# Altium integrated library TI_Logic_Gate.IntLib: 2017 symbols (part 22 of 56)
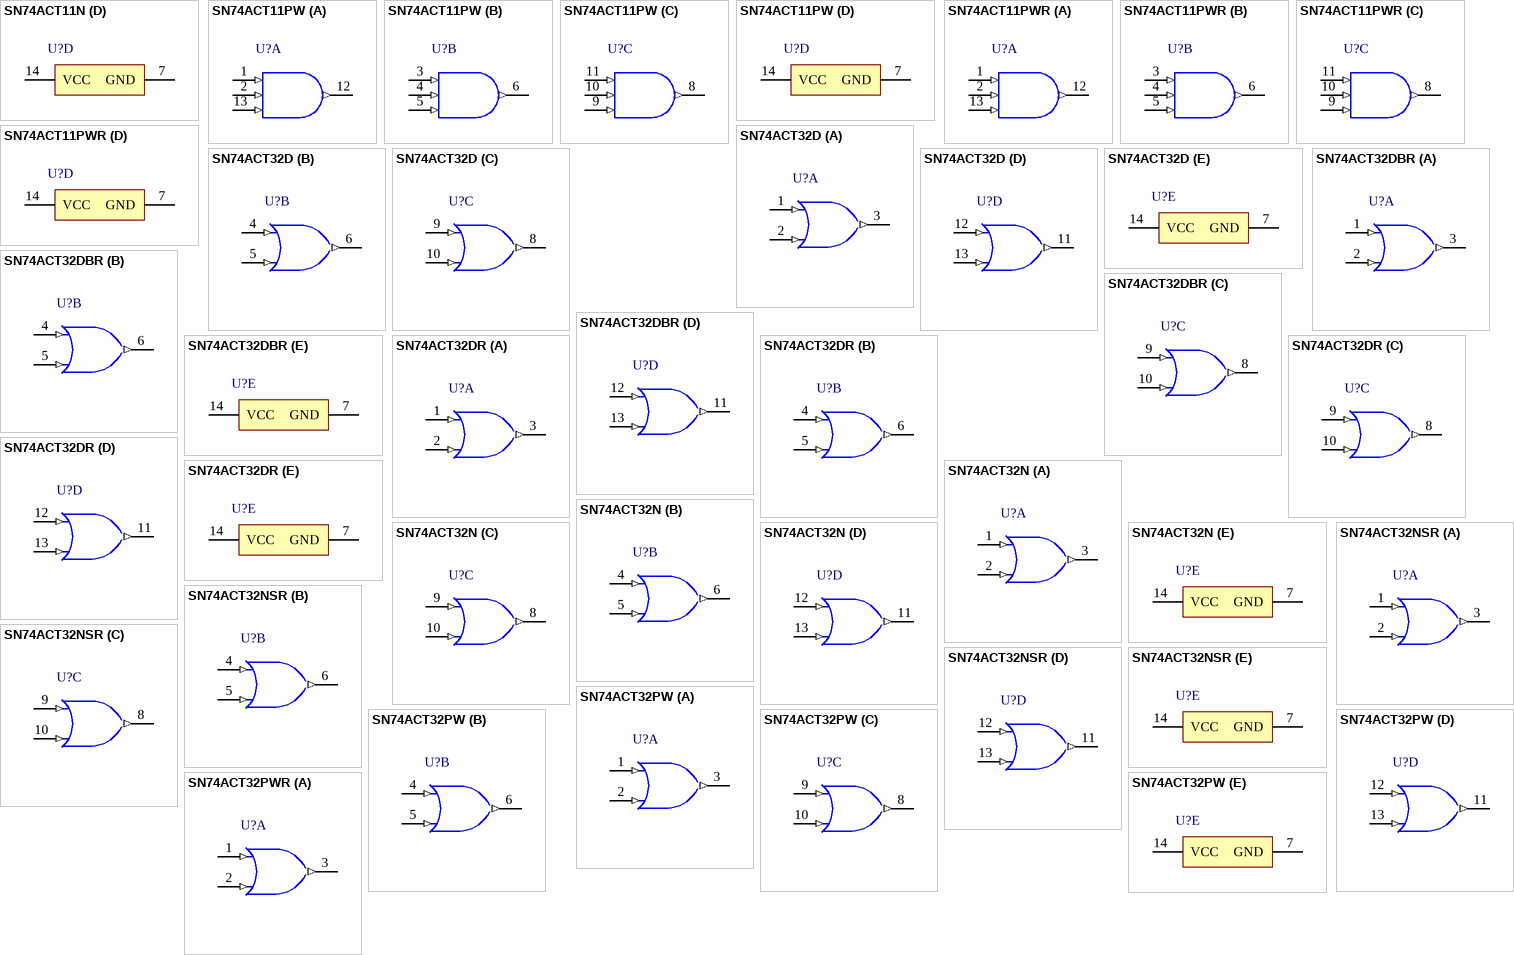
[diagram p246: symbols SN74ACT11N to SN74ACT32PWR]

## SN74ACT32NSR
designator U?
Quadruple 2-Input Positive-OR Gates, NS0014A, LARGE T&R; Generic Part Number: SN74ACT32; Manufacturer: Texas Instruments; PartNumber: SN74ACT32NSR; VCC(Min)(V): 4.5; VCC(Max)(V): 5.5; Output Type: CMOS; ICC @ Nom Voltage(Max)(mA): 0.02; Input Type: TTL; Bits(#): 4; F @ Nom Voltage(Max)(Mhz): 90; Rating: Catalog; Voltage(Nom)(V): 5; Output Drive (IOL/IOH)(Max)(mA): 24/-24; tpd @ Nom Voltage(Max)(ns): 10; DatasheetVersion: SCAS530C; PackageReference: NS0014A; Operating Temperature Range(C): -40 to 85; ComponentLink1Description: Manufacturer URL; ComponentLink1URL: http://www.ti.com/; ComponentLink2Description: Datasheet; ComponentLink2URL: http://www.ti.com/lit/ds/symlink/sn74act32.pdf; ComponentLink3Description: Package Specification; ComponentLink3URL: http://www.ti.com/lit/ml/msop002a/msop002a.pdf
footprint NS0014A_N (SOIC,14-Leads,Body 10.5x5.6mm,Pitch 1.27mm,IPC Medium Density)
footprint NS0014A_M (SOIC,14-Leads,Body 10.5x5.6mm,Pitch 1.27mm,IPC Low Density)
footprint NS0014A_L (SOIC,14-Leads,Body 10.5x5.6mm,Pitch 0.4mm,IPC High Density)
part A pins: 1 1A (in), 2 1B (in), 3 1Y (out)
part B pins: 4 2A (in), 5 2B (in), 6 2Y (out)
part C pins: 8 3Y (out), 9 3A (in), 10 3B (in)
part D pins: 11 4Y (out), 12 4A (in), 13 4B (in)
part E pins: 7 GND (power), 14 VCC (power)

## SN74ACT32PW
designator U?
Quadruple 2-Input Positive-OR Gates, PW0014A, TUBE; Generic Part Number: SN74ACT32; Manufacturer: Texas Instruments; PartNumber: SN74ACT32PW; VCC(Min)(V): 4.5; VCC(Max)(V): 5.5; Output Type: CMOS; ICC @ Nom Voltage(Max)(mA): 0.02; Input Type: TTL; Bits(#): 4; F @ Nom Voltage(Max)(Mhz): 90; Rating: Catalog; Voltage(Nom)(V): 5; Output Drive (IOL/IOH)(Max)(mA): 24/-24; tpd @ Nom Voltage(Max)(ns): 10; DatasheetVersion: SCAS530C; PackageReference: PW0014A; Operating Temperature Range(C): -40 to 85; Code_JEDEC: MO-153; ComponentLink1Description: Manufacturer URL; ComponentLink1URL: http://www.ti.com/; ComponentLink2Description: Datasheet; ComponentLink2URL: http://www.ti.com/lit/ds/symlink/sn74act32.pdf; ComponentLink3Description: Package Specification; ComponentLink3URL: http://www.ti.com/lit/ml/mpds360/mpds360.pdf
footprint PW0014A_N (SOP, 14-Leads, Body 5.1x4.5mm, Pitch 0.65mm, IPC Medium Density)
footprint PW0014A_M (SOP, 14-Leads, Body 5.1x4.5mm, Pitch 0.65mm, IPC Low Density)
footprint PW0014A_L (SOP, 14-Leads, Body 5.1x4.5mm, Pitch 0.65mm, IPC High Density)
part A pins: 1 1A (in), 2 1B (in), 3 1Y (out)
part B pins: 4 2A (in), 5 2B (in), 6 2Y (out)
part C pins: 8 3Y (out), 9 3A (in), 10 3B (in)
part D pins: 11 4Y (out), 12 4A (in), 13 4B (in)
part E pins: 7 GND (power), 14 VCC (power)

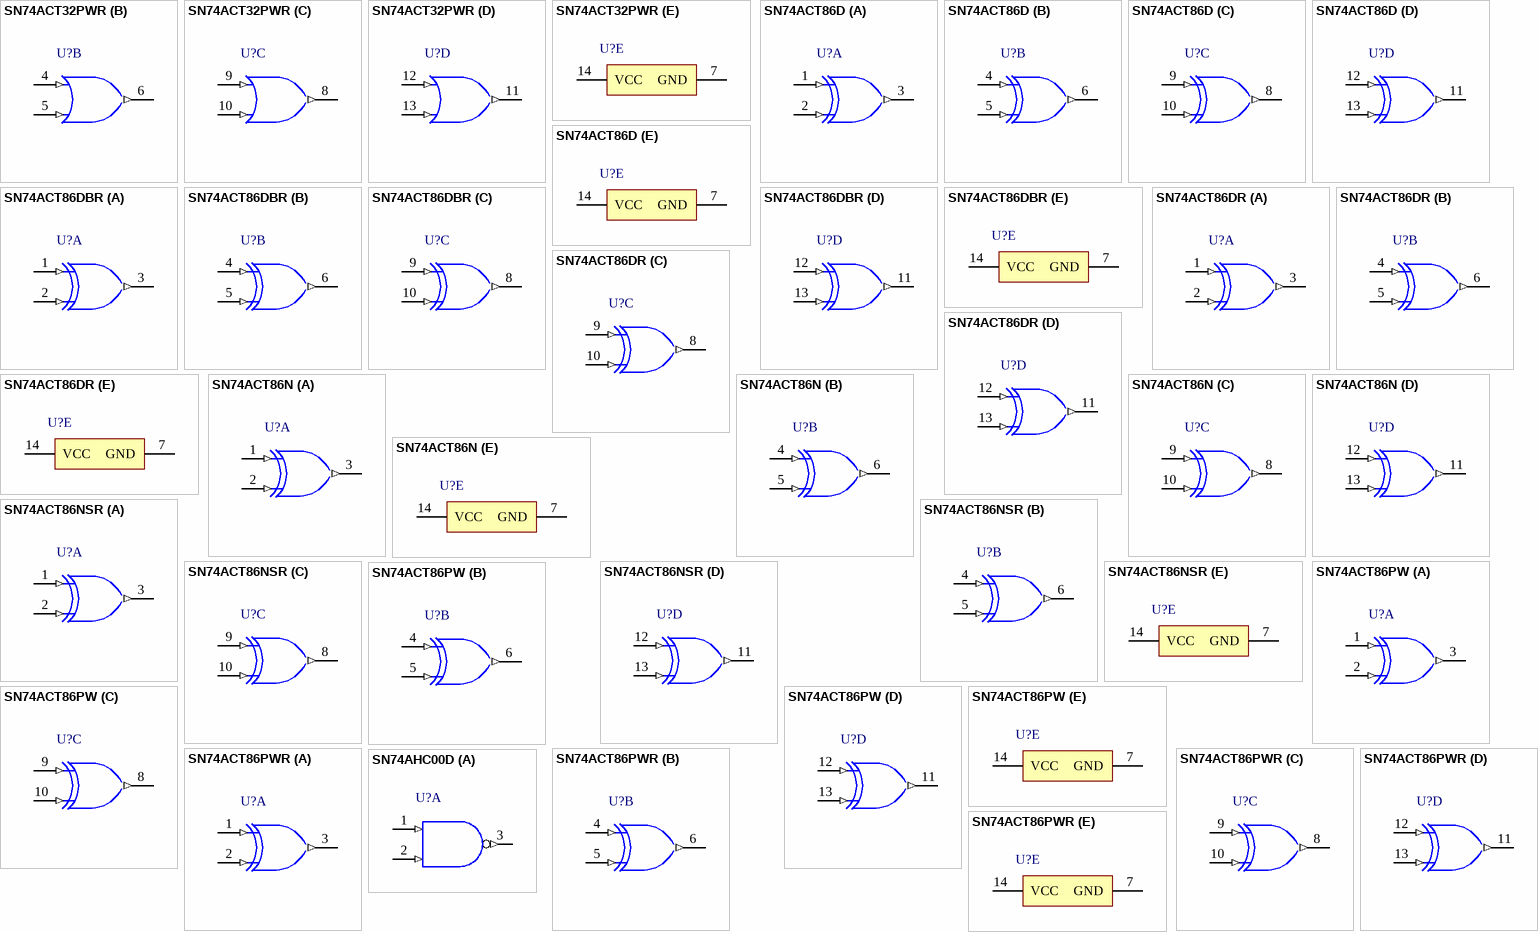
[diagram p87: symbols SN74ACT32PWR to SN74AHC00D]

## SN74ACT32PWR
designator U?
Quadruple 2-Input Positive-OR Gates, PW0014A, LARGE T&R; Generic Part Number: SN74ACT32; Manufacturer: Texas Instruments; PartNumber: SN74ACT32PWR; VCC(Min)(V): 4.5; VCC(Max)(V): 5.5; Output Type: CMOS; ICC @ Nom Voltage(Max)(mA): 0.02; Input Type: TTL; Bits(#): 4; F @ Nom Voltage(Max)(Mhz): 90; Rating: Catalog; Voltage(Nom)(V): 5; Output Drive (IOL/IOH)(Max)(mA): 24/-24; tpd @ Nom Voltage(Max)(ns): 10; DatasheetVersion: SCAS530C; PackageReference: PW0014A; Operating Temperature Range(C): -40 to 85; Code_JEDEC: MO-153; ComponentLink1Description: Manufacturer URL; ComponentLink1URL: http://www.ti.com/; ComponentLink2Description: Datasheet; ComponentLink2URL: http://www.ti.com/lit/ds/symlink/sn74act32.pdf; ComponentLink3Description: Package Specification; ComponentLink3URL: http://www.ti.com/lit/ml/mpds360/mpds360.pdf
footprint PW0014A_N (SOP, 14-Leads, Body 5.1x4.5mm, Pitch 0.65mm, IPC Medium Density)
footprint PW0014A_M (SOP, 14-Leads, Body 5.1x4.5mm, Pitch 0.65mm, IPC Low Density)
footprint PW0014A_L (SOP, 14-Leads, Body 5.1x4.5mm, Pitch 0.65mm, IPC High Density)
part A pins: 1 1A (in), 2 1B (in), 3 1Y (out)
part B pins: 4 2A (in), 5 2B (in), 6 2Y (out)
part C pins: 8 3Y (out), 9 3A (in), 10 3B (in)
part D pins: 11 4Y (out), 12 4A (in), 13 4B (in)
part E pins: 7 GND (power), 14 VCC (power)

## SN74ACT86D
designator U?
Quadruple 2-Input Exclusive-OR Gates, D0014A, TUBE; Generic Part Number: SN74ACT86; Manufacturer: Texas Instruments; PartNumber: SN74ACT86D; VCC(Min)(V): 4.5; VCC(Max)(V): 5.5; Output Type: CMOS; ICC @ Nom Voltage(Max)(mA): 0.04; Input Type: TTL; Bits(#): 4; F @ Nom Voltage(Max)(Mhz): 90; Rating: Catalog; Technology Family: ACT; Voltage(Nom)(V): 5; Schmitt Trigger: No; Output Drive (IOL/IOH)(Max)(mA): 24/-24; tpd @ Nom Voltage(Max)(ns): 10; DatasheetVersion: SCAS534C; PackageReference: D0014A; Supplier 1: Mouser; Supplier Part Number 1: 595-SN74ACT86D; Supplier 2: Digi-Key; Supplier Part Number 2: 296-1463-5-ND; Operating Temperature Range(C): -40 to 85; ComponentLink1Description: Manufacturer URL; ComponentLink1URL: http://www.ti.com/; ComponentLink2Description: Datasheet; ComponentLink2URL: http://www.ti.com/lit/ds/symlink/sn74act86.pdf
footprint D0014A_N (SOIC, 14-Leads, Body 8.75x4mm, Pitch 1.27mm, IPC Medium Density)
footprint D0014A_M (SOIC, 14-Leads, Body 8.75x4mm, Pitch 1.27mm, IPC Low Density)
footprint D0014A_L (SOIC, 14-Leads, Body 8.75x4mm, Pitch 1.27mm, IPC High Density)
part A pins: 1 1A (in), 2 1B (in), 3 1Y (out)
part B pins: 4 2A (in), 5 2B (in), 6 2Y (out)
part C pins: 8 3Y (out), 9 3A (in), 10 3B (in)
part D pins: 11 4Y (out), 12 4A (in), 13 4B (in)
part E pins: 7 GND (power), 14 VCC (power)

## SN74ACT86DBR
designator U?
Quadruple 2-Input Exclusive-OR Gates, DB0014A, LARGE T&R; Generic Part Number: SN74ACT86; Manufacturer: Texas Instruments; PartNumber: SN74ACT86DBR; VCC(Min)(V): 4.5; VCC(Max)(V): 5.5; Output Type: CMOS; ICC @ Nom Voltage(Max)(mA): 0.04; Input Type: TTL; Bits(#): 4; F @ Nom Voltage(Max)(Mhz): 90; Rating: Catalog; Technology Family: ACT; Voltage(Nom)(V): 5; Schmitt Trigger: No; Output Drive (IOL/IOH)(Max)(mA): 24/-24; tpd @ Nom Voltage(Max)(ns): 10; DatasheetVersion: SCAS534C; PackageReference: DB0014A; Supplier 1: Mouser; Supplier Part Number 1: 595-SN74ACT86DBR; Supplier 2: Digi-Key; Supplier Part Number 2: 296-4502-2-ND; Supplier 3: Digi-Key; Supplier Part Number 3: 296-4502-1-ND; Supplier 4: Digi-Key; Supplier Part Number 4: 296-4502-6-ND; Operating Temperature Range(C): -40 to 85; ComponentLink1Description: Manufacturer URL; ComponentLink1URL: http://www.ti.com/; ComponentLink2Description: Datasheet; ComponentLink2URL: http://www.ti.com/lit/ds/symlink/sn74act86.pdf
footprint DB0014A_N (SOP, 14-Leads, Body 5.6x6.5mm, Pitch 0.65mm, IPC Medium Density)
footprint DB0014A_M (SOP, 14-Leads, Body 5.6x6.5mm, Pitch 0.65mm, IPC Low Density)
footprint DB0014A_L (SOP, 14-Leads, Body 5.6x6.5mm, Pitch 0.65mm, IPC High Density)
part A pins: 1 1A (in), 2 1B (in), 3 1Y (out)
part B pins: 4 2A (in), 5 2B (in), 6 2Y (out)
part C pins: 8 3Y (out), 9 3A (in), 10 3B (in)
part D pins: 11 4Y (out), 12 4A (in), 13 4B (in)
part E pins: 7 GND (power), 14 VCC (power)

## SN74ACT86DR
designator U?
Quadruple 2-Input Exclusive-OR Gates, D0014A, LARGE T&R; Generic Part Number: SN74ACT86; Manufacturer: Texas Instruments; PartNumber: SN74ACT86DR; VCC(Min)(V): 4.5; VCC(Max)(V): 5.5; Output Type: CMOS; ICC @ Nom Voltage(Max)(mA): 0.04; Input Type: TTL; Bits(#): 4; F @ Nom Voltage(Max)(Mhz): 90; Rating: Catalog; Technology Family: ACT; Voltage(Nom)(V): 5; Schmitt Trigger: No; Output Drive (IOL/IOH)(Max)(mA): 24/-24; tpd @ Nom Voltage(Max)(ns): 10; DatasheetVersion: SCAS534C; PackageReference: D0014A; Supplier 1: Mouser; Supplier Part Number 1: 595-SN74ACT86DR; Supplier 2: Digi-Key; Supplier Part Number 2: 296-9757-2-ND; Supplier 3: Digi-Key; Supplier Part Number 3: 296-9757-1-ND; Supplier 4: Digi-Key; Supplier Part Number 4: 296-9757-6-ND; Operating Temperature Range(C): -40 to 85; ComponentLink1Description: Manufacturer URL; ComponentLink1URL: http://www.ti.com/; ComponentLink2Description: Datasheet; ComponentLink2URL: http://www.ti.com/lit/ds/symlink/sn74act86.pdf
footprint D0014A_N (SOIC, 14-Leads, Body 8.75x4mm, Pitch 1.27mm, IPC Medium Density)
footprint D0014A_M (SOIC, 14-Leads, Body 8.75x4mm, Pitch 1.27mm, IPC Low Density)
footprint D0014A_L (SOIC, 14-Leads, Body 8.75x4mm, Pitch 1.27mm, IPC High Density)
part A pins: 1 1A (in), 2 1B (in), 3 1Y (out)
part B pins: 4 2A (in), 5 2B (in), 6 2Y (out)
part C pins: 8 3Y (out), 9 3A (in), 10 3B (in)
part D pins: 11 4Y (out), 12 4A (in), 13 4B (in)
part E pins: 7 GND (power), 14 VCC (power)

## SN74ACT86N
designator U?
Quadruple 2-Input Exclusive-OR Gates, N0014A, TUBE; Generic Part Number: SN74ACT86; Manufacturer: Texas Instruments; PartNumber: SN74ACT86N; VCC(Min)(V): 4.5; VCC(Max)(V): 5.5; Output Type: CMOS; ICC @ Nom Voltage(Max)(mA): 0.04; Input Type: TTL; Bits(#): 4; F @ Nom Voltage(Max)(Mhz): 90; Rating: Catalog; Technology Family: ACT; Voltage(Nom)(V): 5; Schmitt Trigger: No; Output Drive (IOL/IOH)(Max)(mA): 24/-24; tpd @ Nom Voltage(Max)(ns): 10; DatasheetVersion: SCAS534C; PackageReference: N0014A; Supplier 1: Mouser; Supplier Part Number 1: 595-SN74ACT86N; Supplier 2: Digi-Key; Supplier Part Number 2: 296-4503-5-ND; Operating Temperature Range(C): -40 to 85; ComponentLink1Description: Manufacturer URL; ComponentLink1URL: http://www.ti.com/; ComponentLink2Description: Datasheet; ComponentLink2URL: http://www.ti.com/lit/ds/symlink/sn74act86.pdf
footprint N0014A (DIP, 14-Leads, Body 19.7x6.6mm, Pitch 2.54mm)
part A pins: 1 1A (in), 2 1B (in), 3 1Y (out)
part B pins: 4 2A (in), 5 2B (in), 6 2Y (out)
part C pins: 8 3Y (out), 9 3A (in), 10 3B (in)
part D pins: 11 4Y (out), 12 4A (in), 13 4B (in)
part E pins: 7 GND (power), 14 VCC (power)

## SN74ACT86NSR
designator U?
Quadruple 2-Input Exclusive-OR Gates, NS0014A, LARGE T&R; Generic Part Number: SN74ACT86; Manufacturer: Texas Instruments; PartNumber: SN74ACT86NSR; VCC(Min)(V): 4.5; VCC(Max)(V): 5.5; Output Type: CMOS; ICC @ Nom Voltage(Max)(mA): 0.04; Input Type: TTL; Bits(#): 4; F @ Nom Voltage(Max)(Mhz): 90; Rating: Catalog; Technology Family: ACT; Voltage(Nom)(V): 5; Schmitt Trigger: No; Output Drive (IOL/IOH)(Max)(mA): 24/-24; tpd @ Nom Voltage(Max)(ns): 10; DatasheetVersion: SCAS534C; PackageReference: NS0014A; Supplier 1: Mouser; Supplier Part Number 1: 595-SN74ACT86NSR; Supplier 2: Digi-Key; Supplier Part Number 2: 296-38216-2-ND; Supplier 3: Digi-Key; Supplier Part Number 3: 296-38216-1-ND; Supplier 4: Digi-Key; Supplier Part Number 4: 296-38216-6-ND; Operating Temperature Range(C): -40 to 85; ComponentLink1Description: Manufacturer URL; ComponentLink1URL: http://www.ti.com/; ComponentLink2Description: Datasheet; ComponentLink2URL: http://www.ti.com/lit/ds/symlink/sn74act86.pdf
footprint NS0014A_N (SOIC,14-Leads,Body 10.5x5.6mm,Pitch 1.27mm,IPC Medium Density)
footprint NS0014A_M (SOIC,14-Leads,Body 10.5x5.6mm,Pitch 1.27mm,IPC Low Density)
footprint NS0014A_L (SOIC,14-Leads,Body 10.5x5.6mm,Pitch 0.4mm,IPC High Density)
part A pins: 1 1A (in), 2 1B (in), 3 1Y (out)
part B pins: 4 2A (in), 5 2B (in), 6 2Y (out)
part C pins: 8 3Y (out), 9 3A (in), 10 3B (in)
part D pins: 11 4Y (out), 12 4A (in), 13 4B (in)
part E pins: 7 GND (power), 14 VCC (power)

## SN74ACT86PW
designator U?
Quadruple 2-Input Exclusive-OR Gates, PW0014A, TUBE; Generic Part Number: SN74ACT86; Manufacturer: Texas Instruments; PartNumber: SN74ACT86PW; VCC(Min)(V): 4.5; VCC(Max)(V): 5.5; Output Type: CMOS; ICC @ Nom Voltage(Max)(mA): 0.04; Input Type: TTL; Bits(#): 4; F @ Nom Voltage(Max)(Mhz): 90; Rating: Catalog; Technology Family: ACT; Voltage(Nom)(V): 5; Schmitt Trigger: No; Output Drive (IOL/IOH)(Max)(mA): 24/-24; tpd @ Nom Voltage(Max)(ns): 10; DatasheetVersion: SCAS534C; PackageReference: PW0014A; Supplier 1: Mouser; Supplier Part Number 1: 595-SN74ACT86PW; Supplier 2: Digi-Key; Supplier Part Number 2: 296-33666-5-ND; Operating Temperature Range(C): -40 to 85; ComponentLink1Description: Manufacturer URL; ComponentLink1URL: http://www.ti.com/; ComponentLink2Description: Datasheet; ComponentLink2URL: http://www.ti.com/lit/ds/symlink/sn74act86.pdf
footprint PW0014A_N (SOP, 14-Leads, Body 5.1x4.5mm, Pitch 0.65mm, IPC Medium Density)
footprint PW0014A_M (SOP, 14-Leads, Body 5.1x4.5mm, Pitch 0.65mm, IPC Low Density)
footprint PW0014A_L (SOP, 14-Leads, Body 5.1x4.5mm, Pitch 0.65mm, IPC High Density)
part A pins: 1 1A (in), 2 1B (in), 3 1Y (out)
part B pins: 4 2A (in), 5 2B (in), 6 2Y (out)
part C pins: 8 3Y (out), 9 3A (in), 10 3B (in)
part D pins: 11 4Y (out), 12 4A (in), 13 4B (in)
part E pins: 7 GND (power), 14 VCC (power)

## SN74ACT86PWR
designator U?
Quadruple 2-Input Exclusive-OR Gates, PW0014A, LARGE T&R; Generic Part Number: SN74ACT86; Manufacturer: Texas Instruments; PartNumber: SN74ACT86PWR; VCC(Min)(V): 4.5; VCC(Max)(V): 5.5; Output Type: CMOS; ICC @ Nom Voltage(Max)(mA): 0.04; Input Type: TTL; Bits(#): 4; F @ Nom Voltage(Max)(Mhz): 90; Rating: Catalog; Technology Family: ACT; Voltage(Nom)(V): 5; Schmitt Trigger: No; Output Drive (IOL/IOH)(Max)(mA): 24/-24; tpd @ Nom Voltage(Max)(ns): 10; DatasheetVersion: SCAS534C; PackageReference: PW0014A; Supplier 1: Mouser; Supplier Part Number 1: 595-SN74ACT86PWR; Supplier 2: Digi-Key; Supplier Part Number 2: 296-4504-2-ND; Supplier 3: Digi-Key; Supplier Part Number 3: 296-4504-1-ND; Supplier 4: Digi-Key; Supplier Part Number 4: 296-4504-6-ND; Operating Temperature Range(C): -40 to 85; ComponentLink1Description: Manufacturer URL; ComponentLink1URL: http://www.ti.com/; ComponentLink2Description: Datasheet; ComponentLink2URL: http://www.ti.com/lit/ds/symlink/sn74act86.pdf
footprint PW0014A_N (SOP, 14-Leads, Body 5.1x4.5mm, Pitch 0.65mm, IPC Medium Density)
footprint PW0014A_M (SOP, 14-Leads, Body 5.1x4.5mm, Pitch 0.65mm, IPC Low Density)
footprint PW0014A_L (SOP, 14-Leads, Body 5.1x4.5mm, Pitch 0.65mm, IPC High Density)
part A pins: 1 1A (in), 2 1B (in), 3 1Y (out)
part B pins: 4 2A (in), 5 2B (in), 6 2Y (out)
part C pins: 8 3Y (out), 9 3A (in), 10 3B (in)
part D pins: 11 4Y (out), 12 4A (in), 13 4B (in)
part E pins: 7 GND (power), 14 VCC (power)

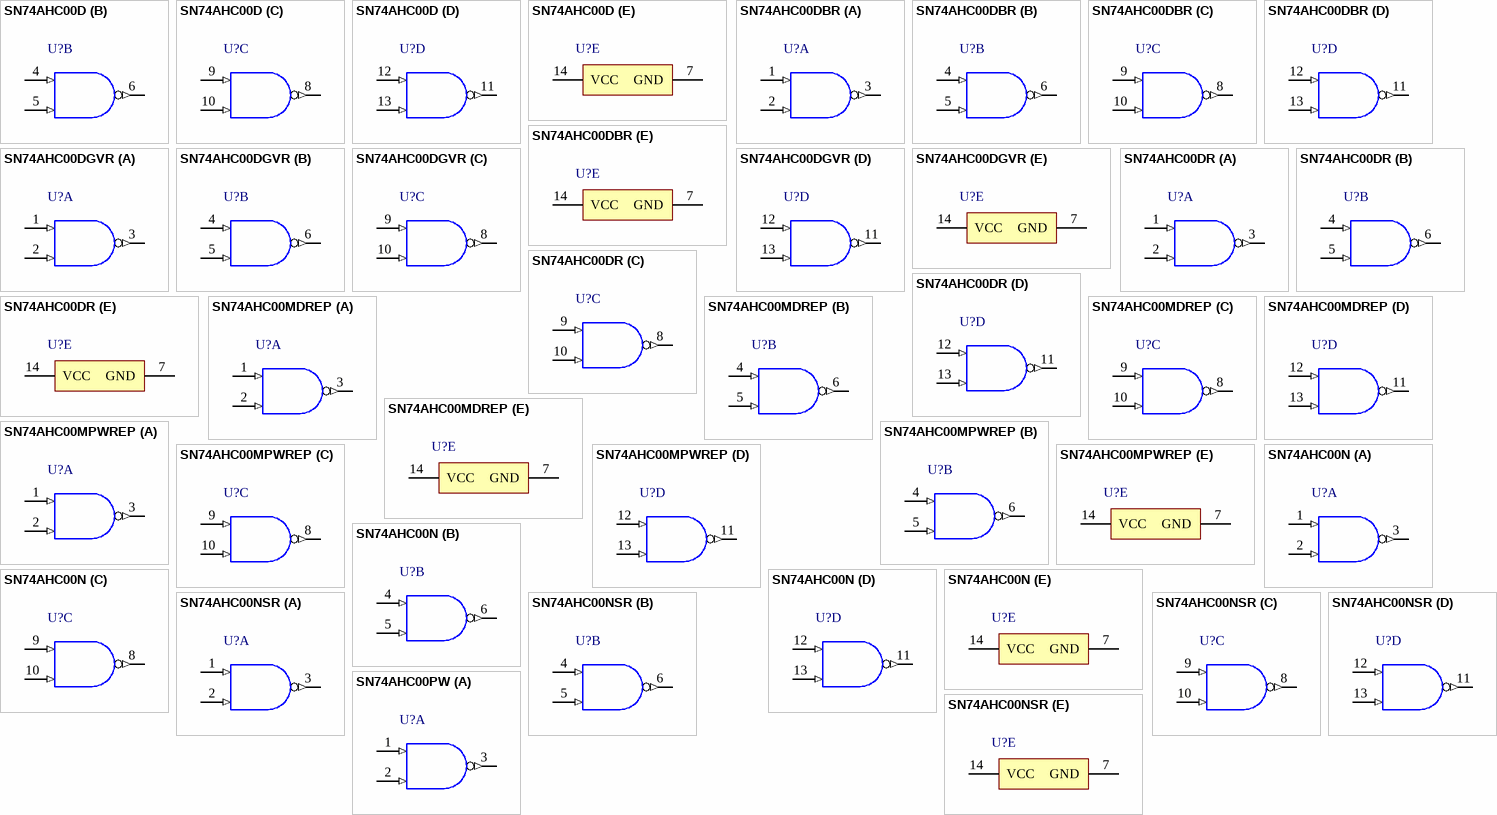
[diagram p88: symbols SN74AHC00D to SN74AHC00PW]

## SN74AHC00D
designator U?
Quadruple 2-Input Positive-NAND Gates, D0014A, TUBE; Generic Part Number: SN74AHC00; Manufacturer: Texas Instruments; PartNumber: SN74AHC00D; VCC(Min)(V): 2; VCC(Max)(V): 5.5; Output Type: CMOS; ICC @ Nom Voltage(Max)(mA): 0.02; Bits(#): 4; F @ Nom Voltage(Max)(Mhz): 110; Rating: Catalog; Technology Family: AHC; Voltage(Nom)(V): 3.3,5; Schmitt Trigger: No; Output Drive (IOL/IOH)(Max)(mA): 50/-50; tpd @ Nom Voltage(Max)(ns): 13,8.5; DatasheetVersion: SCLS227J; PackageReference: D0014A; Supplier 1: Mouser; Supplier Part Number 1: 595-SN74AHC00D; Supplier 2: Digi-Key; Supplier Part Number 2: 296-26386-5-ND; Input Type: CMOS; Operating Temperature Range(C): -40 to 125; Code_JEDEC: MS-012; ComponentLink1Description: Manufacturer URL; ComponentLink1URL: http://www.ti.com/; ComponentLink2Description: Datasheet; ComponentLink2URL: http://www.ti.com/lit/ds/symlink/sn74ahc00.pdf; ComponentLink3Description: Package Specification; ComponentLink3URL: http://www.ti.com/lit/ml/mpds177g/mpds177g.pdf
footprint D0014A_N (SOIC, 14-Leads, Body 8.75x4mm, Pitch 1.27mm, IPC Medium Density)
footprint D0014A_M (SOIC, 14-Leads, Body 8.75x4mm, Pitch 1.27mm, IPC Low Density)
footprint D0014A_L (SOIC, 14-Leads, Body 8.75x4mm, Pitch 1.27mm, IPC High Density)
part A pins: 1 1A (in) "Gate 1 input", 2 1B (in) "Gate 1 input", 3 1Y (out) "Gate 1 output"
part B pins: 4 2A (in) "Gate 2 input", 5 2B (in) "Gate 2 input", 6 2Y (out) "Gate 2 output"
part C pins: 8 3Y (out) "Gate 3 output", 9 3A (in) "Gate 3 input", 10 3B (in) "Gate 3 input"
part D pins: 11 4Y (out) "Gate 4 output", 12 4A (in) "Gate 4 input", 13 4B (in) "Gate 4 input"
part E pins: 7 GND (power) "Ground Pin", 14 VCC (power) "Power Pin"

## SN74AHC00DBR
designator U?
Quadruple 2-Input Positive-NAND Gates, DB0014A, LARGE T&R; Generic Part Number: SN74AHC00; Manufacturer: Texas Instruments; PartNumber: SN74AHC00DBR; VCC(Min)(V): 2; VCC(Max)(V): 5.5; Output Type: CMOS; ICC @ Nom Voltage(Max)(mA): 0.02; Bits(#): 4; F @ Nom Voltage(Max)(Mhz): 110; Rating: Catalog; Technology Family: AHC; Voltage(Nom)(V): 3.3,5; Schmitt Trigger: No; Output Drive (IOL/IOH)(Max)(mA): 50/-50; tpd @ Nom Voltage(Max)(ns): 13,8.5; DatasheetVersion: SCLS227J; PackageReference: DB0014A; Supplier 1: Mouser; Supplier Part Number 1: 595-SN74AHC00DBR; Supplier 2: Digi-Key; Supplier Part Number 2: 296-4507-2-ND; Supplier 3: Digi-Key; Supplier Part Number 3: 296-4507-1-ND; Supplier 4: Digi-Key; Supplier Part Number 4: 296-4507-6-ND; Input Type: CMOS; Operating Temperature Range(C): -40 to 125; Code_JEDEC: MO-150; ComponentLink1Description: Manufacturer URL; ComponentLink1URL: http://www.ti.com/; ComponentLink2Description: Datasheet; ComponentLink2URL: http://www.ti.com/lit/ds/symlink/sn74ahc00.pdf; ComponentLink3Description: Package Specification; ComponentLink3URL: http://www.ti.com/lit/ml/msso002e/msso002e.pdf
footprint DB0014A_N (SOP, 14-Leads, Body 5.6x6.5mm, Pitch 0.65mm, IPC Medium Density)
footprint DB0014A_M (SOP, 14-Leads, Body 5.6x6.5mm, Pitch 0.65mm, IPC Low Density)
footprint DB0014A_L (SOP, 14-Leads, Body 5.6x6.5mm, Pitch 0.65mm, IPC High Density)
part A pins: 1 1A (in) "Gate 1 input", 2 1B (in) "Gate 1 input", 3 1Y (out) "Gate 1 output"
part B pins: 4 2A (in) "Gate 2 input", 5 2B (in) "Gate 2 input", 6 2Y (out) "Gate 2 output"
part C pins: 8 3Y (out) "Gate 3 output", 9 3A (in) "Gate 3 input", 10 3B (in) "Gate 3 input"
part D pins: 11 4Y (out) "Gate 4 output", 12 4A (in) "Gate 4 input", 13 4B (in) "Gate 4 input"
part E pins: 7 GND (power) "Ground Pin", 14 VCC (power) "Power Pin"

## SN74AHC00DGVR
designator U?
Quadruple 2-Input Positive-NAND Gates, DGV0014A, LARGE T&R; Generic Part Number: SN74AHC00; Manufacturer: Texas Instruments; PartNumber: SN74AHC00DGVR; VCC(Min)(V): 2; VCC(Max)(V): 5.5; Output Type: CMOS; ICC @ Nom Voltage(Max)(mA): 0.02; Bits(#): 4; F @ Nom Voltage(Max)(Mhz): 110; Rating: Catalog; Technology Family: AHC; Voltage(Nom)(V): 3.3,5; Schmitt Trigger: No; Output Drive (IOL/IOH)(Max)(mA): 50/-50; tpd @ Nom Voltage(Max)(ns): 13,8.5; DatasheetVersion: SCLS227J; PackageReference: DGV0014A; Supplier 1: Mouser; Supplier Part Number 1: 595-SN74AHC00DGVR; Supplier 2: Digi-Key; Supplier Part Number 2: 296-4508-2-ND; Supplier 3: Digi-Key; Supplier Part Number 3: 296-4508-1-ND; Supplier 4: Digi-Key; Supplier Part Number 4: 296-4508-6-ND; Input Type: CMOS; Operating Temperature Range(C): -40 to 125; Code_JEDEC: MO-194; ComponentLink1Description: Manufacturer URL; ComponentLink1URL: http://www.ti.com/; ComponentLink2Description: Datasheet; ComponentLink2URL: http://www.ti.com/lit/ds/symlink/sn74ahc00.pdf; ComponentLink3Description: Package Specification; ComponentLink3URL: http://www.ti.com/lit/ml/mpds006c/mpds006c.pdf
footprint DGV0014A_N (SOP, 14-Leads, Body 4.5x3.7mm, Pitch 0.4mm, IPC Medium Density)
footprint DGV0014A_M (SOP, 14-Leads, Body 4.5x3.7mm, Pitch 0.4mm, IPC Low Density)
footprint DGV0014A_L (SOP, 14-Leads, Body 4.5x3.7mm, Pitch 0.4mm, IPC High Density)
part A pins: 1 1A (in) "Gate 1 input", 2 1B (in) "Gate 1 input", 3 1Y (out) "Gate 1 output"
part B pins: 4 2A (in) "Gate 2 input", 5 2B (in) "Gate 2 input", 6 2Y (out) "Gate 2 output"
part C pins: 8 3Y (out) "Gate 3 output", 9 3A (in) "Gate 3 input", 10 3B (in) "Gate 3 input"
part D pins: 11 4Y (out) "Gate 4 output", 12 4A (in) "Gate 4 input", 13 4B (in) "Gate 4 input"
part E pins: 7 GND (power) "Ground Pin", 14 VCC (power) "Power Pin"

## SN74AHC00DR
designator U?
Quadruple 2-Input Positive-NAND Gates, D0014A, LARGE T&R; Generic Part Number: SN74AHC00; Manufacturer: Texas Instruments; PartNumber: SN74AHC00DR; VCC(Min)(V): 2; VCC(Max)(V): 5.5; Output Type: CMOS; ICC @ Nom Voltage(Max)(mA): 0.02; Bits(#): 4; F @ Nom Voltage(Max)(Mhz): 110; Rating: Catalog; Technology Family: AHC; Voltage(Nom)(V): 3.3,5; Schmitt Trigger: No; Output Drive (IOL/IOH)(Max)(mA): 50/-50; tpd @ Nom Voltage(Max)(ns): 13,8.5; DatasheetVersion: SCLS227J; PackageReference: D0014A; Supplier 1: Mouser; Supplier Part Number 1: 595-SN74AHC00DR; Supplier 2: Digi-Key; Supplier Part Number 2: 296-4509-2-ND; Supplier 3: Digi-Key; Supplier Part Number 3: 296-4509-1-ND; Supplier 4: Digi-Key; Supplier Part Number 4: 296-4509-6-ND; Input Type: CMOS; Operating Temperature Range(C): -40 to 125; Code_JEDEC: MS-012; ComponentLink1Description: Manufacturer URL; ComponentLink1URL: http://www.ti.com/; ComponentLink2Description: Datasheet; ComponentLink2URL: http://www.ti.com/lit/ds/symlink/sn74ahc00.pdf; ComponentLink3Description: Package Specification; ComponentLink3URL: http://www.ti.com/lit/ml/mpds177g/mpds177g.pdf
footprint D0014A_N (SOIC, 14-Leads, Body 8.75x4mm, Pitch 1.27mm, IPC Medium Density)
footprint D0014A_M (SOIC, 14-Leads, Body 8.75x4mm, Pitch 1.27mm, IPC Low Density)
footprint D0014A_L (SOIC, 14-Leads, Body 8.75x4mm, Pitch 1.27mm, IPC High Density)
part A pins: 1 1A (in) "Gate 1 input", 2 1B (in) "Gate 1 input", 3 1Y (out) "Gate 1 output"
part B pins: 4 2A (in) "Gate 2 input", 5 2B (in) "Gate 2 input", 6 2Y (out) "Gate 2 output"
part C pins: 8 3Y (out) "Gate 3 output", 9 3A (in) "Gate 3 input", 10 3B (in) "Gate 3 input"
part D pins: 11 4Y (out) "Gate 4 output", 12 4A (in) "Gate 4 input", 13 4B (in) "Gate 4 input"
part E pins: 7 GND (power) "Ground Pin", 14 VCC (power) "Power Pin"

## SN74AHC00MDREP
designator U?
Enhanced Product Quadruple 2-Input Positive-Nand Gates, D-14 Not Definied, LARGE T&R; Generic Part Number: SN74AHC00-EP; Manufacturer: Texas Instruments; PartNumber: SN74AHC00MDREP; VCC(Min)(V): 2; VCC(Max)(V): 5.5; Output Type: CMOS; ICC @ Nom Voltage(Max)(mA): 0.02; Bits(#): 4; F @ Nom Voltage(Max)(Mhz): 110; Rating: HiRel Enhanced Product; Technology Family: AHC; Voltage(Nom)(V): 3.3,5; Schmitt Trigger: No; Output Drive (IOL/IOH)(Max)(mA): 50/-50; tpd @ Nom Voltage(Max)(ns): 13,8.5; DatasheetVersion: SGDS026; PackageReference: D0014A; Supplier 1: Mouser; Supplier Part Number 1: 595-SN74AHC00MDREP; Supplier 2: Digi-Key; Supplier Part Number 2: 296-22259-2-ND; Supplier 3: Digi-Key; Supplier Part Number 3: 296-22259-1-ND; Supplier 4: Digi-Key; Supplier Part Number 4: 296-22259-6-ND; Input Type: CMOS; Operating Temperature Range(C): -55 to 125; Code_JEDEC: MS-012; ComponentLink1Description: Manufacturer URL; ComponentLink1URL: http://www.ti.com/; ComponentLink2Description: Datasheet; ComponentLink2URL: http://www.ti.com/lit/ds/symlink/sn74ahc00-ep.pdf; ComponentLink3Description: Package Specification; ComponentLink3URL: http://www.ti.com/lit/ml/mpds177g/mpds177g.pdf
footprint D0014A_N (SOIC, 14-Leads, Body 8.75x4mm, Pitch 1.27mm, IPC Medium Density)
footprint D0014A_M (SOIC, 14-Leads, Body 8.75x4mm, Pitch 1.27mm, IPC Low Density)
footprint D0014A_L (SOIC, 14-Leads, Body 8.75x4mm, Pitch 1.27mm, IPC High Density)
part A pins: 1 1A (in) "Gate 1 input", 2 1B (in) "Gate 1 input", 3 1Y (out) "Gate 1 output"
part B pins: 4 2A (in) "Gate 2 input", 5 2B (in) "Gate 2 input", 6 2Y (out) "Gate 2 output"
part C pins: 8 3Y (out) "Gate 3 output", 9 3A (in) "Gate 3 input", 10 3B (in) "Gate 3 input"
part D pins: 11 4Y (out) "Gate 4 output", 12 4A (in) "Gate 4 input", 13 4B (in) "Gate 4 input"
part E pins: 7 GND (power) "Ground Pin", 14 VCC (power) "Power Pin"

## SN74AHC00MPWREP
designator U?
Enhanced Product Quadruple 2-Input Positive-Nand Gates, PW0014A, LARGE T&R; Generic Part Number: SN74AHC00-EP; Manufacturer: Texas Instruments; PartNumber: SN74AHC00MPWREP; VCC(Min)(V): 2; VCC(Max)(V): 5.5; Output Type: CMOS; ICC @ Nom Voltage(Max)(mA): 0.02; Bits(#): 4; F @ Nom Voltage(Max)(Mhz): 110; Rating: HiRel Enhanced Product; Technology Family: AHC; Voltage(Nom)(V): 3.3,5; Schmitt Trigger: No; Output Drive (IOL/IOH)(Max)(mA): 50/-50; tpd @ Nom Voltage(Max)(ns): 13,8.5; DatasheetVersion: SGDS026; PackageReference: PW0014A; Supplier 1: Mouser; Supplier Part Number 1: 595-SN74AHC00MPWREP; Supplier 2: Digi-Key; Supplier Part Number 2: 296-22260-2-ND; Supplier 3: Digi-Key; Supplier Part Number 3: 296-22260-1-ND; Supplier 4: Digi-Key; Supplier Part Number 4: 296-22260-6-ND; Input Type: CMOS; Operating Temperature Range(C): -55 to 125; Code_JEDEC: MO-153; ComponentLink1Description: Manufacturer URL; ComponentLink1URL: http://www.ti.com/; ComponentLink2Description: Datasheet; ComponentLink2URL: http://www.ti.com/lit/ds/symlink/sn74ahc00-ep.pdf; ComponentLink3Description: Package Specification; ComponentLink3URL: http://www.ti.com/lit/ml/mpds360/mpds360.pdf
footprint PW0014A_N (SOP, 14-Leads, Body 5.1x4.5mm, Pitch 0.65mm, IPC Medium Density)
footprint PW0014A_M (SOP, 14-Leads, Body 5.1x4.5mm, Pitch 0.65mm, IPC Low Density)
footprint PW0014A_L (SOP, 14-Leads, Body 5.1x4.5mm, Pitch 0.65mm, IPC High Density)
part A pins: 1 1A (in) "Gate 1 input", 2 1B (in) "Gate 1 input", 3 1Y (out) "Gate 1 output"
part B pins: 4 2A (in) "Gate 2 input", 5 2B (in) "Gate 2 input", 6 2Y (out) "Gate 2 output"
part C pins: 8 3Y (out) "Gate 3 output", 9 3A (in) "Gate 3 input", 10 3B (in) "Gate 3 input"
part D pins: 11 4Y (out) "Gate 4 output", 12 4A (in) "Gate 4 input", 13 4B (in) "Gate 4 input"
part E pins: 7 GND (power) "Ground Pin", 14 VCC (power) "Power Pin"

## SN74AHC00N
designator U?
Quadruple 2-Input Positive-NAND Gates, N0014A, TUBE; Generic Part Number: SN74AHC00; Manufacturer: Texas Instruments; PartNumber: SN74AHC00N; VCC(Min)(V): 2; VCC(Max)(V): 5.5; Output Type: CMOS; ICC @ Nom Voltage(Max)(mA): 0.02; Bits(#): 4; F @ Nom Voltage(Max)(Mhz): 110; Rating: Catalog; Technology Family: AHC; Voltage(Nom)(V): 3.3,5; Schmitt Trigger: No; Output Drive (IOL/IOH)(Max)(mA): 50/-50; tpd @ Nom Voltage(Max)(ns): 13,8.5; DatasheetVersion: SCLS227J; PackageReference: N0014A; Supplier 1: Mouser; Supplier Part Number 1: 595-SN74AHC00N; Supplier 2: Digi-Key; Supplier Part Number 2: 296-4510-5-ND; Input Type: CMOS; Operating Temperature Range(C): -40 to 125; Code_JEDEC: MS-001; ComponentLink1Description: Manufacturer URL; ComponentLink1URL: http://www.ti.com/; ComponentLink2Description: Datasheet; ComponentLink2URL: http://www.ti.com/lit/ds/symlink/sn74ahc00.pdf; ComponentLink3Description: Package Specification; ComponentLink3URL: http://www.ti.com/lit/ml/mpdi002c/mpdi002c.pdf
footprint N0014A (DIP, 14-Leads, Body 19.7x6.6mm, Pitch 2.54mm)
part A pins: 1 1A (in) "Gate 1 input", 2 1B (in) "Gate 1 input", 3 1Y (out) "Gate 1 output"
part B pins: 4 2A (in) "Gate 2 input", 5 2B (in) "Gate 2 input", 6 2Y (out) "Gate 2 output"
part C pins: 8 3Y (out) "Gate 3 output", 9 3A (in) "Gate 3 input", 10 3B (in) "Gate 3 input"
part D pins: 11 4Y (out) "Gate 4 output", 12 4A (in) "Gate 4 input", 13 4B (in) "Gate 4 input"
part E pins: 7 GND (power) "Ground Pin", 14 VCC (power) "Power Pin"

## SN74AHC00NSR
designator U?
Quadruple 2-Input Positive-NAND Gates, NS0014A, LARGE T&R; Generic Part Number: SN74AHC00; Manufacturer: Texas Instruments; PartNumber: SN74AHC00NSR; VCC(Min)(V): 2; VCC(Max)(V): 5.5; Output Type: CMOS; ICC @ Nom Voltage(Max)(mA): 0.02; Bits(#): 4; F @ Nom Voltage(Max)(Mhz): 110; Rating: Catalog; Technology Family: AHC; Voltage(Nom)(V): 3.3,5; Schmitt Trigger: No; Output Drive (IOL/IOH)(Max)(mA): 50/-50; tpd @ Nom Voltage(Max)(ns): 13,8.5; DatasheetVersion: SCLS227J; PackageReference: NS0014A; Supplier 1: Mouser; Supplier Part Number 1: 595-SN74AHC00NSR; Supplier 2: Digi-Key; Supplier Part Number 2: 296-13132-2-ND; Supplier 3: Digi-Key; Supplier Part Number 3: 296-13132-1-ND; Supplier 4: Digi-Key; Supplier Part Number 4: 296-13132-6-ND; Input Type: CMOS; Operating Temperature Range(C): -40 to 125; ComponentLink1Description: Manufacturer URL; ComponentLink1URL: http://www.ti.com/; ComponentLink2Description: Datasheet; ComponentLink2URL: http://www.ti.com/lit/ds/symlink/sn74ahc00.pdf; ComponentLink3Description: Package Specification; ComponentLink3URL: http://www.ti.com/lit/ml/msop002a/msop002a.pdf
footprint NS0014A_N (SOIC,14-Leads,Body 10.5x5.6mm,Pitch 1.27mm,IPC Medium Density)
footprint NS0014A_M (SOIC,14-Leads,Body 10.5x5.6mm,Pitch 1.27mm,IPC Low Density)
footprint NS0014A_L (SOIC,14-Leads,Body 10.5x5.6mm,Pitch 0.4mm,IPC High Density)
part A pins: 1 1A (in) "Gate 1 input", 2 1B (in) "Gate 1 input", 3 1Y (out) "Gate 1 output"
part B pins: 4 2A (in) "Gate 2 input", 5 2B (in) "Gate 2 input", 6 2Y (out) "Gate 2 output"
part C pins: 8 3Y (out) "Gate 3 output", 9 3A (in) "Gate 3 input", 10 3B (in) "Gate 3 input"
part D pins: 11 4Y (out) "Gate 4 output", 12 4A (in) "Gate 4 input", 13 4B (in) "Gate 4 input"
part E pins: 7 GND (power) "Ground Pin", 14 VCC (power) "Power Pin"

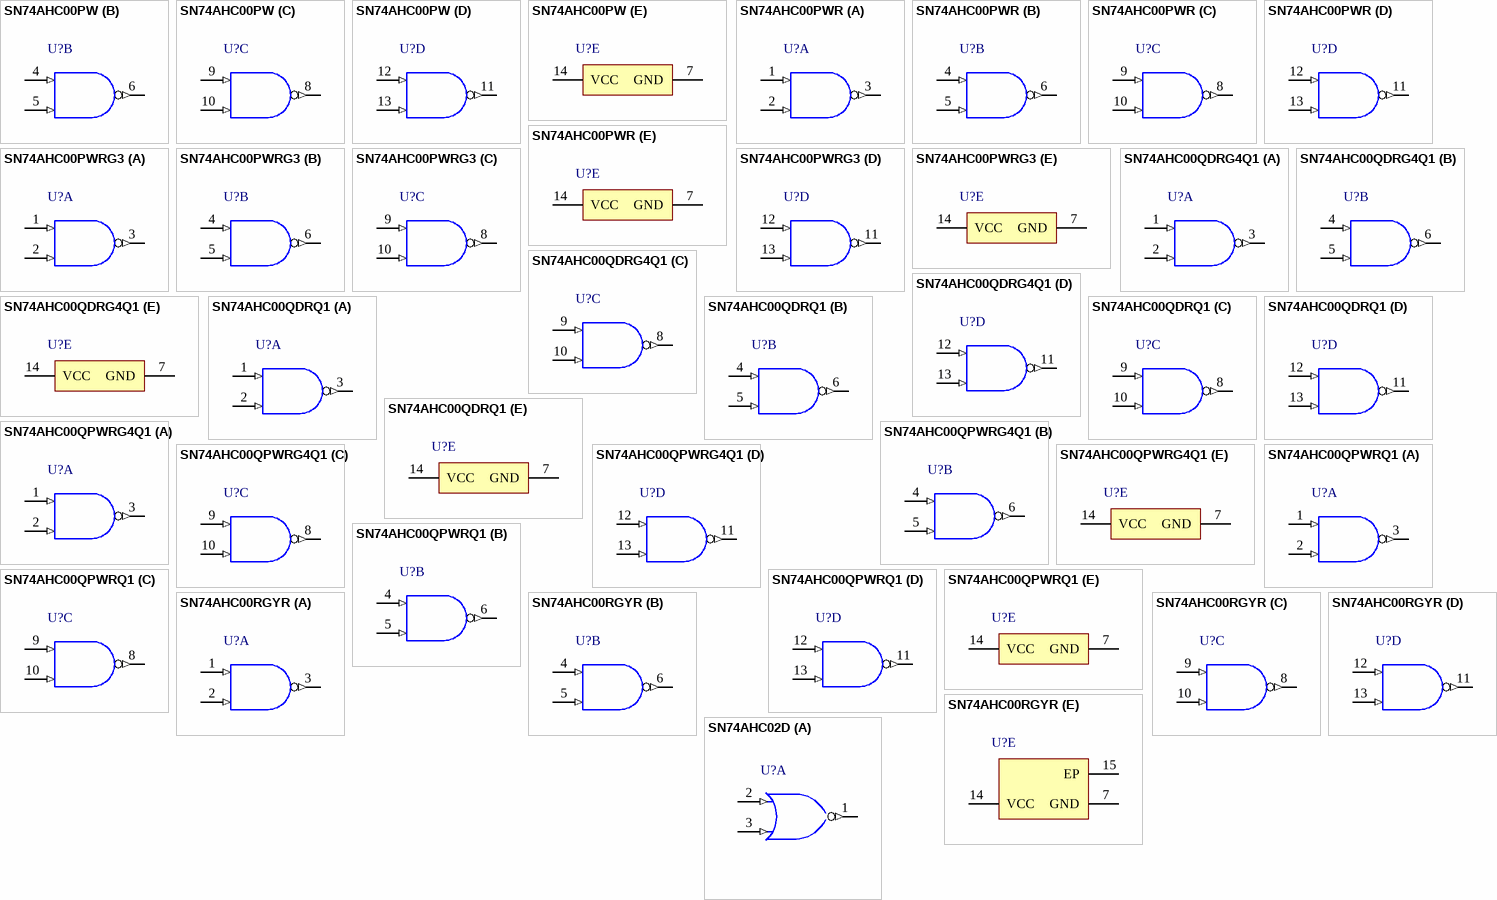
[diagram p89: symbols SN74AHC00PW to SN74AHC02D]

## SN74AHC00PW
designator U?
Quadruple 2-Input Positive-NAND Gates, PW0014A, TUBE; Generic Part Number: SN74AHC00; Manufacturer: Texas Instruments; PartNumber: SN74AHC00PW; VCC(Min)(V): 2; VCC(Max)(V): 5.5; Output Type: CMOS; ICC @ Nom Voltage(Max)(mA): 0.02; Bits(#): 4; F @ Nom Voltage(Max)(Mhz): 110; Rating: Catalog; Technology Family: AHC; Voltage(Nom)(V): 3.3,5; Schmitt Trigger: No; Output Drive (IOL/IOH)(Max)(mA): 50/-50; tpd @ Nom Voltage(Max)(ns): 13,8.5; DatasheetVersion: SCLS227J; PackageReference: PW0014A; Supplier 1: Mouser; Supplier Part Number 1: 595-SN74AHC00PW; Supplier 2: Digi-Key; Supplier Part Number 2: 296-26387-5-ND; Input Type: CMOS; Operating Temperature Range(C): -40 to 125; Code_JEDEC: MO-153; ComponentLink1Description: Manufacturer URL; ComponentLink1URL: http://www.ti.com/; ComponentLink2Description: Datasheet; ComponentLink2URL: http://www.ti.com/lit/ds/symlink/sn74ahc00.pdf; ComponentLink3Description: Package Specification; ComponentLink3URL: http://www.ti.com/lit/ml/mpds360/mpds360.pdf
footprint PW0014A_N (SOP, 14-Leads, Body 5.1x4.5mm, Pitch 0.65mm, IPC Medium Density)
footprint PW0014A_M (SOP, 14-Leads, Body 5.1x4.5mm, Pitch 0.65mm, IPC Low Density)
footprint PW0014A_L (SOP, 14-Leads, Body 5.1x4.5mm, Pitch 0.65mm, IPC High Density)
part A pins: 1 1A (in) "Gate 1 input", 2 1B (in) "Gate 1 input", 3 1Y (out) "Gate 1 output"
part B pins: 4 2A (in) "Gate 2 input", 5 2B (in) "Gate 2 input", 6 2Y (out) "Gate 2 output"
part C pins: 8 3Y (out) "Gate 3 output", 9 3A (in) "Gate 3 input", 10 3B (in) "Gate 3 input"
part D pins: 11 4Y (out) "Gate 4 output", 12 4A (in) "Gate 4 input", 13 4B (in) "Gate 4 input"
part E pins: 7 GND (power) "Ground Pin", 14 VCC (power) "Power Pin"

## SN74AHC00PWR
designator U?
Quadruple 2-Input Positive-NAND Gates, PW0014A, LARGE T&R; Generic Part Number: SN74AHC00; Manufacturer: Texas Instruments; PartNumber: SN74AHC00PWR; VCC(Min)(V): 2; VCC(Max)(V): 5.5; Output Type: CMOS; ICC @ Nom Voltage(Max)(mA): 0.02; Bits(#): 4; F @ Nom Voltage(Max)(Mhz): 110; Rating: Catalog; Technology Family: AHC; Voltage(Nom)(V): 3.3,5; Schmitt Trigger: No; Output Drive (IOL/IOH)(Max)(mA): 50/-50; tpd @ Nom Voltage(Max)(ns): 13,8.5; DatasheetVersion: SCLS227J; PackageReference: PW0014A; Supplier 1: Mouser; Supplier Part Number 1: 595-SN74AHC00PWR; Supplier 2: Digi-Key; Supplier Part Number 2: 296-1080-2-ND; Supplier 3: Digi-Key; Supplier Part Number 3: 296-1080-1-ND; Supplier 4: Digi-Key; Supplier Part Number 4: 296-1080-6-ND; Input Type: CMOS; Operating Temperature Range(C): -40 to 125; Code_JEDEC: MO-153; ComponentLink1Description: Manufacturer URL; ComponentLink1URL: http://www.ti.com/; ComponentLink2Description: Datasheet; ComponentLink2URL: http://www.ti.com/lit/ds/symlink/sn74ahc00.pdf; ComponentLink3Description: Package Specification; ComponentLink3URL: http://www.ti.com/lit/ml/mpds360/mpds360.pdf
footprint PW0014A_N (SOP, 14-Leads, Body 5.1x4.5mm, Pitch 0.65mm, IPC Medium Density)
footprint PW0014A_M (SOP, 14-Leads, Body 5.1x4.5mm, Pitch 0.65mm, IPC Low Density)
footprint PW0014A_L (SOP, 14-Leads, Body 5.1x4.5mm, Pitch 0.65mm, IPC High Density)
part A pins: 1 1A (in) "Gate 1 input", 2 1B (in) "Gate 1 input", 3 1Y (out) "Gate 1 output"
part B pins: 4 2A (in) "Gate 2 input", 5 2B (in) "Gate 2 input", 6 2Y (out) "Gate 2 output"
part C pins: 8 3Y (out) "Gate 3 output", 9 3A (in) "Gate 3 input", 10 3B (in) "Gate 3 input"
part D pins: 11 4Y (out) "Gate 4 output", 12 4A (in) "Gate 4 input", 13 4B (in) "Gate 4 input"
part E pins: 7 GND (power) "Ground Pin", 14 VCC (power) "Power Pin"

## SN74AHC00PWRG3
designator U?
Quadruple 2-Input Positive-NAND Gates, PW0014A, LARGE T&R; Generic Part Number: SN74AHC00; Manufacturer: Texas Instruments; PartNumber: SN74AHC00PWRG3; VCC(Min)(V): 2; VCC(Max)(V): 5.5; Output Type: CMOS; ICC @ Nom Voltage(Max)(mA): 0.02; Bits(#): 4; F @ Nom Voltage(Max)(Mhz): 110; Rating: Catalog; Technology Family: AHC; Voltage(Nom)(V): 3.3,5; Schmitt Trigger: No; Output Drive (IOL/IOH)(Max)(mA): 50/-50; tpd @ Nom Voltage(Max)(ns): 13,8.5; DatasheetVersion: SCLS227J; PackageReference: PW0014A; Supplier 1: Mouser; Supplier Part Number 1: 595-SN74AHC00PWRG3; Supplier 2: Digi-Key; Supplier Part Number 2: 296-40535-2-ND; Supplier 3: Digi-Key; Supplier Part Number 3: 296-40535-1-ND; Supplier 4: Digi-Key; Supplier Part Number 4: 296-40535-6-ND; Input Type: CMOS; Operating Temperature Range(C): -40 to 125; Code_JEDEC: MO-153; ComponentLink1Description: Manufacturer URL; ComponentLink1URL: http://www.ti.com/; ComponentLink2Description: Datasheet; ComponentLink2URL: http://www.ti.com/lit/ds/symlink/sn74ahc00.pdf; ComponentLink3Description: Package Specification; ComponentLink3URL: http://www.ti.com/lit/ml/mpds360/mpds360.pdf
footprint PW0014A_N (SOP, 14-Leads, Body 5.1x4.5mm, Pitch 0.65mm, IPC Medium Density)
footprint PW0014A_M (SOP, 14-Leads, Body 5.1x4.5mm, Pitch 0.65mm, IPC Low Density)
footprint PW0014A_L (SOP, 14-Leads, Body 5.1x4.5mm, Pitch 0.65mm, IPC High Density)
part A pins: 1 1A (in) "Gate 1 input", 2 1B (in) "Gate 1 input", 3 1Y (out) "Gate 1 output"
part B pins: 4 2A (in) "Gate 2 input", 5 2B (in) "Gate 2 input", 6 2Y (out) "Gate 2 output"
part C pins: 8 3Y (out) "Gate 3 output", 9 3A (in) "Gate 3 input", 10 3B (in) "Gate 3 input"
part D pins: 11 4Y (out) "Gate 4 output", 12 4A (in) "Gate 4 input", 13 4B (in) "Gate 4 input"
part E pins: 7 GND (power) "Ground Pin", 14 VCC (power) "Power Pin"

## SN74AHC00QDRG4Q1
designator U?
Automotive Catalog Quadruple 2-Input Positive-NAND Gates, D0014A, LARGE T&R; Generic Part Number: SN74AHC00-Q1; Manufacturer: Texas Instruments; PartNumber: SN74AHC00QDRG4Q1; VCC(Min)(V): 2; VCC(Max)(V): 5.5; Output Type: CMOS; ICC @ Nom Voltage(Max)(mA): 0.02; Bits(#): 4; F @ Nom Voltage(Max)(Mhz): 110; Technology Family: AHC; Voltage(Nom)(V): 3.3,5; Schmitt Trigger: No; Output Drive (IOL/IOH)(Max)(mA): 50/-50; tpd @ Nom Voltage(Max)(ns): 13,8.5; DatasheetVersion: SGDS013B; PackageReference: D0014A; Supplier 1: Mouser; Supplier Part Number 1: 595-SN74AHC00QDRG4Q1; Supplier 2: Digi-Key; Supplier Part Number 2: SN74AHC00QDRG4Q1-ND; Input Type: CMOS; Operating Temperature Range(C): -40 to 125; Rating: Automotive; Code_JEDEC: MS-012; ComponentLink1Description: Manufacturer URL; ComponentLink1URL: http://www.ti.com/; ComponentLink2Description: Datasheet; ComponentLink2URL: http://www.ti.com/lit/ds/symlink/sn74ahc00-q1.pdf; ComponentLink3Description: Package Specification; ComponentLink3URL: http://www.ti.com/lit/ml/mpds177g/mpds177g.pdf
footprint D0014A_N (SOIC, 14-Leads, Body 8.75x4mm, Pitch 1.27mm, IPC Medium Density)
footprint D0014A_M (SOIC, 14-Leads, Body 8.75x4mm, Pitch 1.27mm, IPC Low Density)
footprint D0014A_L (SOIC, 14-Leads, Body 8.75x4mm, Pitch 1.27mm, IPC High Density)
part A pins: 1 1A (in) "Gate 1 input", 2 1B (in) "Gate 1 input", 3 1Y (out) "Gate 1 output"
part B pins: 4 2A (in) "Gate 2 input", 5 2B (in) "Gate 2 input", 6 2Y (out) "Gate 2 output"
part C pins: 8 3Y (out) "Gate 3 output", 9 3A (in) "Gate 3 input", 10 3B (in) "Gate 3 input"
part D pins: 11 4Y (out) "Gate 4 output", 12 4A (in) "Gate 4 input", 13 4B (in) "Gate 4 input"
part E pins: 7 GND (power) "Ground Pin", 14 VCC (power) "Power Pin"

## SN74AHC00QDRQ1
designator U?
Automotive Catalog Quadruple 2-Input Positive-NAND Gates, D0014A, LARGE T&R; Generic Part Number: SN74AHC00-Q1; Manufacturer: Texas Instruments; PartNumber: SN74AHC00QDRQ1; VCC(Min)(V): 2; VCC(Max)(V): 5.5; Output Type: CMOS; ICC @ Nom Voltage(Max)(mA): 0.02; Bits(#): 4; F @ Nom Voltage(Max)(Mhz): 110; Technology Family: AHC; Voltage(Nom)(V): 3.3,5; Schmitt Trigger: No; Output Drive (IOL/IOH)(Max)(mA): 50/-50; tpd @ Nom Voltage(Max)(ns): 13,8.5; DatasheetVersion: SGDS013B; PackageReference: D0014A; Supplier 1: Mouser; Supplier Part Number 1: 595-SN74AHC00QDRQ1; Supplier 2: Digi-Key; Supplier Part Number 2: SN74AHC00QDRQ1-ND; Input Type: CMOS; Operating Temperature Range(C): -40 to 125; Rating: Automotive; Code_JEDEC: MS-012; ComponentLink1Description: Manufacturer URL; ComponentLink1URL: http://www.ti.com/; ComponentLink2Description: Datasheet; ComponentLink2URL: http://www.ti.com/lit/ds/symlink/sn74ahc00-q1.pdf; ComponentLink3Description: Package Specification; ComponentLink3URL: http://www.ti.com/lit/ml/mpds177g/mpds177g.pdf
footprint D0014A_N (SOIC, 14-Leads, Body 8.75x4mm, Pitch 1.27mm, IPC Medium Density)
footprint D0014A_M (SOIC, 14-Leads, Body 8.75x4mm, Pitch 1.27mm, IPC Low Density)
footprint D0014A_L (SOIC, 14-Leads, Body 8.75x4mm, Pitch 1.27mm, IPC High Density)
part A pins: 1 1A (in) "Gate 1 input", 2 1B (in) "Gate 1 input", 3 1Y (out) "Gate 1 output"
part B pins: 4 2A (in) "Gate 2 input", 5 2B (in) "Gate 2 input", 6 2Y (out) "Gate 2 output"
part C pins: 8 3Y (out) "Gate 3 output", 9 3A (in) "Gate 3 input", 10 3B (in) "Gate 3 input"
part D pins: 11 4Y (out) "Gate 4 output", 12 4A (in) "Gate 4 input", 13 4B (in) "Gate 4 input"
part E pins: 7 GND (power) "Ground Pin", 14 VCC (power) "Power Pin"

## SN74AHC00QPWRG4Q1
designator U?
Automotive Catalog Quadruple 2-Input Positive-NAND Gates, PW0014A, LARGE T&R; Generic Part Number: SN74AHC00-Q1; Manufacturer: Texas Instruments; PartNumber: SN74AHC00QPWRG4Q1; VCC(Min)(V): 2; VCC(Max)(V): 5.5; Output Type: CMOS; ICC @ Nom Voltage(Max)(mA): 0.02; Bits(#): 4; F @ Nom Voltage(Max)(Mhz): 110; Technology Family: AHC; Voltage(Nom)(V): 3.3,5; Schmitt Trigger: No; Output Drive (IOL/IOH)(Max)(mA): 50/-50; tpd @ Nom Voltage(Max)(ns): 13,8.5; DatasheetVersion: SGDS013B; PackageReference: PW0014A; Supplier 1: Mouser; Supplier Part Number 1: 595-N74AHC00QPWRG4Q1; Supplier 2: Digi-Key; Supplier Part Number 2: 296-24423-2-ND; Supplier 3: Digi-Key; Supplier Part Number 3: 296-24423-1-ND; Supplier 4: Digi-Key; Supplier Part Number 4: 296-24423-6-ND; Input Type: CMOS; Operating Temperature Range(C): -40 to 125; Rating: Automotive; Code_JEDEC: MO-153; ComponentLink1Description: Manufacturer URL; ComponentLink1URL: http://www.ti.com/; ComponentLink2Description: Datasheet; ComponentLink2URL: http://www.ti.com/lit/ds/symlink/sn74ahc00-q1.pdf; ComponentLink3Description: Package Specification; ComponentLink3URL: http://www.ti.com/lit/ml/mpds360/mpds360.pdf
footprint PW0014A_N (SOP, 14-Leads, Body 5.1x4.5mm, Pitch 0.65mm, IPC Medium Density)
footprint PW0014A_M (SOP, 14-Leads, Body 5.1x4.5mm, Pitch 0.65mm, IPC Low Density)
footprint PW0014A_L (SOP, 14-Leads, Body 5.1x4.5mm, Pitch 0.65mm, IPC High Density)
part A pins: 1 1A (in) "Gate 1 input", 2 1B (in) "Gate 1 input", 3 1Y (out) "Gate 1 output"
part B pins: 4 2A (in) "Gate 2 input", 5 2B (in) "Gate 2 input", 6 2Y (out) "Gate 2 output"
part C pins: 8 3Y (out) "Gate 3 output", 9 3A (in) "Gate 3 input", 10 3B (in) "Gate 3 input"
part D pins: 11 4Y (out) "Gate 4 output", 12 4A (in) "Gate 4 input", 13 4B (in) "Gate 4 input"
part E pins: 7 GND (power) "Ground Pin", 14 VCC (power) "Power Pin"

## SN74AHC00QPWRQ1
designator U?
Automotive Catalog Quadruple 2-Input Positive-NAND Gates, PW0014A, LARGE T&R; Generic Part Number: SN74AHC00-Q1; Manufacturer: Texas Instruments; PartNumber: SN74AHC00QPWRQ1; VCC(Min)(V): 2; VCC(Max)(V): 5.5; Output Type: CMOS; ICC @ Nom Voltage(Max)(mA): 0.02; Bits(#): 4; F @ Nom Voltage(Max)(Mhz): 110; Technology Family: AHC; Voltage(Nom)(V): 3.3,5; Schmitt Trigger: No; Output Drive (IOL/IOH)(Max)(mA): 50/-50; tpd @ Nom Voltage(Max)(ns): 13,8.5; DatasheetVersion: SGDS013B; PackageReference: PW0014A; Supplier 1: Mouser; Supplier Part Number 1: 595-SN74AHC00QPWRQ1; Supplier 2: Digi-Key; Supplier Part Number 2: 296-17742-2-ND; Supplier 3: Digi-Key; Supplier Part Number 3: 296-17742-1-ND; Supplier 4: Digi-Key; Supplier Part Number 4: 296-17742-6-ND; Input Type: CMOS; Operating Temperature Range(C): -40 to 125; Rating: Automotive; Code_JEDEC: MO-153; ComponentLink1Description: Manufacturer URL; ComponentLink1URL: http://www.ti.com/; ComponentLink2Description: Datasheet; ComponentLink2URL: http://www.ti.com/lit/ds/symlink/sn74ahc00-q1.pdf; ComponentLink3Description: Package Specification; ComponentLink3URL: http://www.ti.com/lit/ml/mpds360/mpds360.pdf
footprint PW0014A_N (SOP, 14-Leads, Body 5.1x4.5mm, Pitch 0.65mm, IPC Medium Density)
footprint PW0014A_M (SOP, 14-Leads, Body 5.1x4.5mm, Pitch 0.65mm, IPC Low Density)
footprint PW0014A_L (SOP, 14-Leads, Body 5.1x4.5mm, Pitch 0.65mm, IPC High Density)
part A pins: 1 1A (in) "Gate 1 input", 2 1B (in) "Gate 1 input", 3 1Y (out) "Gate 1 output"
part B pins: 4 2A (in) "Gate 2 input", 5 2B (in) "Gate 2 input", 6 2Y (out) "Gate 2 output"
part C pins: 8 3Y (out) "Gate 3 output", 9 3A (in) "Gate 3 input", 10 3B (in) "Gate 3 input"
part D pins: 11 4Y (out) "Gate 4 output", 12 4A (in) "Gate 4 input", 13 4B (in) "Gate 4 input"
part E pins: 7 GND (power) "Ground Pin", 14 VCC (power) "Power Pin"

## SN74AHC00RGYR
designator U?
Quadruple 2-Input Positive-NAND Gates, RGY0014A, LARGE T&R; Generic Part Number: SN74AHC00; Manufacturer: Texas Instruments; PartNumber: SN74AHC00RGYR; VCC(Min)(V): 2; VCC(Max)(V): 5.5; Output Type: CMOS; ICC @ Nom Voltage(Max)(mA): 0.02; Bits(#): 4; F @ Nom Voltage(Max)(Mhz): 110; Rating: Catalog; Technology Family: AHC; Voltage(Nom)(V): 3.3,5; Schmitt Trigger: No; Output Drive (IOL/IOH)(Max)(mA): 50/-50; tpd @ Nom Voltage(Max)(ns): 13,8.5; DatasheetVersion: SCLS227J; PackageReference: RGY0014A; Supplier 1: Mouser; Supplier Part Number 1: 595-SN74AHC00RGYR; Supplier 2: Digi-Key; Supplier Part Number 2: 296-13893-2-ND; Supplier 3: Digi-Key; Supplier Part Number 3: 296-13893-1-ND; Supplier 4: Digi-Key; Supplier Part Number 4: 296-13893-6-ND; Input Type: CMOS; Operating Temperature Range(C): -40 to 125; Code_JEDEC: MO-241; ComponentLink1Description: Manufacturer URL; ComponentLink1URL: http://www.ti.com/; ComponentLink2Description: Datasheet; ComponentLink2URL: http://www.ti.com/lit/ds/symlink/sn74ahc00.pdf; ComponentLink3Description: Package Specification; ComponentLink3URL: http://www.ti.com/lit/ml/mpqf114g/mpqf114g.pdf
footprint RGY0014A_V (QFN, 14-Leads, Body 3.5x3.5mm, Thermal Pad 2.05x2.05mm, TI Recommend)
part A pins: 1 1A (in) "Gate 1 input", 2 1B (in) "Gate 1 input", 3 1Y (out) "Gate 1 output"
part B pins: 4 2A (in) "Gate 2 input", 5 2B (in) "Gate 2 input", 6 2Y (out) "Gate 2 output"
part C pins: 8 3Y (out) "Gate 3 output", 9 3A (in) "Gate 3 input", 10 3B (in) "Gate 3 input"
part D pins: 11 4Y (out) "Gate 4 output", 12 4A (in) "Gate 4 input", 13 4B (in) "Gate 4 input"
part E pins: 7 GND (power) "Ground Pin", 14 VCC (power) "Power Pin", 15 EP

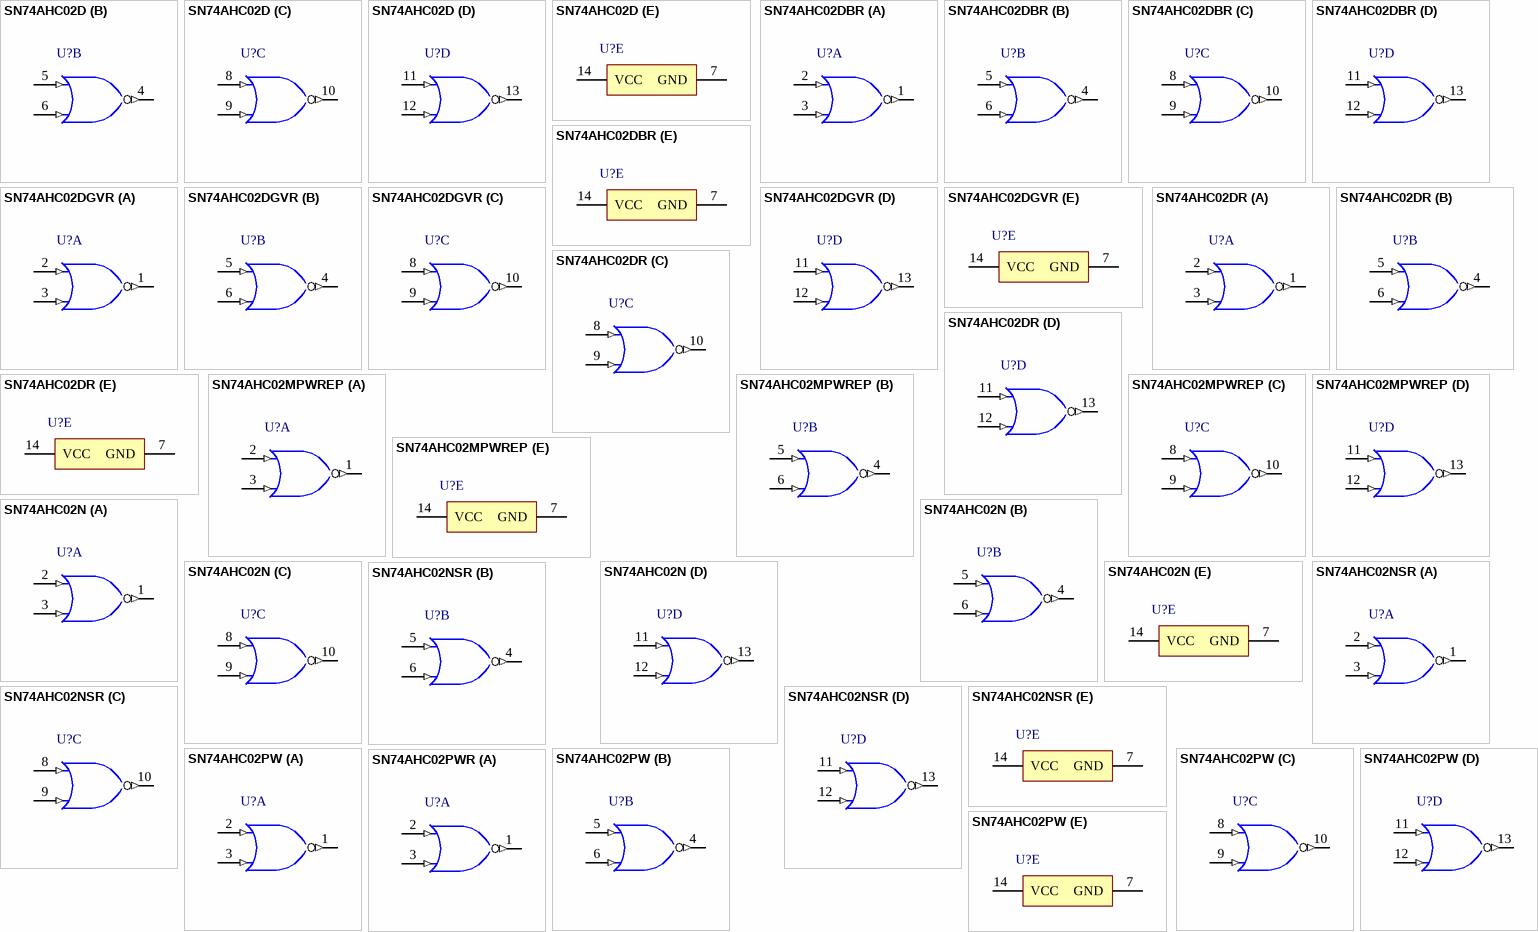
[diagram p90: symbols SN74AHC02D to SN74AHC02PWR]

## SN74AHC02D
designator U?
Quadruple 2-Input Positive-NOR Gates, D0014A, TUBE; Generic Part Number: SN74AHC02; Manufacturer: Texas Instruments; PartNumber: SN74AHC02D; VCC(Min)(V): 2; VCC(Max)(V): 5.5; Output Type: CMOS; Bits(#): 4; Rating: Catalog; tpd @ Nom Voltage(Max)(ns): 13,8.5; ICC @ Nom Voltage(Max)(mA): 0.02; F @ Nom Voltage(Max)(Mhz): 110; Voltage(Nom)(V): 3.3,5; Output Drive (IOL/IOH)(Max)(mA): 50/-50; DatasheetVersion: SCLS254L; PackageReference: D0014A; Input Type: CMOS; Operating Temperature Range(C): -40 to 125; Code_JEDEC: MS-012; ComponentLink1Description: Manufacturer URL; ComponentLink1URL: http://www.ti.com/; ComponentLink2Description: Datasheet; ComponentLink2URL: http://www.ti.com/lit/ds/symlink/sn74ahc02.pdf; ComponentLink3Description: Package Specification; ComponentLink3URL: http://www.ti.com/lit/ml/mpds177g/mpds177g.pdf
footprint D0014A_N (SOIC, 14-Leads, Body 8.75x4mm, Pitch 1.27mm, IPC Medium Density)
footprint D0014A_M (SOIC, 14-Leads, Body 8.75x4mm, Pitch 1.27mm, IPC Low Density)
footprint D0014A_L (SOIC, 14-Leads, Body 8.75x4mm, Pitch 1.27mm, IPC High Density)
part A pins: 1 1Y (out) "1Y output", 2 1A (in) "1A input", 3 1B (in) "1B input"
part B pins: 4 2Y (out) "2Y output", 5 2A (in) "2A input", 6 2B (in) "2B input"
part C pins: 8 3A (in) "3A input", 9 3B (in) "3B input", 10 3Y (out) "3Y output"
part D pins: 11 4A (in) "4A input", 12 4B (in) "4B input", 13 4Y (out) "4Y output"
part E pins: 7 GND (power), 14 VCC (power)

## SN74AHC02DBR
designator U?
Quadruple 2-Input Positive-NOR Gates, DB0014A, LARGE T&R; Generic Part Number: SN74AHC02; Manufacturer: Texas Instruments; PartNumber: SN74AHC02DBR; VCC(Min)(V): 2; VCC(Max)(V): 5.5; Output Type: CMOS; Bits(#): 4; Rating: Catalog; tpd @ Nom Voltage(Max)(ns): 13,8.5; ICC @ Nom Voltage(Max)(mA): 0.02; F @ Nom Voltage(Max)(Mhz): 110; Voltage(Nom)(V): 3.3,5; Output Drive (IOL/IOH)(Max)(mA): 50/-50; DatasheetVersion: SCLS254L; PackageReference: DB0014A; Input Type: CMOS; Operating Temperature Range(C): -40 to 125; Code_JEDEC: MO-150; ComponentLink1Description: Manufacturer URL; ComponentLink1URL: http://www.ti.com/; ComponentLink2Description: Datasheet; ComponentLink2URL: http://www.ti.com/lit/ds/symlink/sn74ahc02.pdf; ComponentLink3Description: Package Specification; ComponentLink3URL: http://www.ti.com/lit/ml/msso002e/msso002e.pdf
footprint DB0014A_N (SOP, 14-Leads, Body 5.6x6.5mm, Pitch 0.65mm, IPC Medium Density)
footprint DB0014A_M (SOP, 14-Leads, Body 5.6x6.5mm, Pitch 0.65mm, IPC Low Density)
footprint DB0014A_L (SOP, 14-Leads, Body 5.6x6.5mm, Pitch 0.65mm, IPC High Density)
part A pins: 1 1Y (out) "1Y output", 2 1A (in) "1A input", 3 1B (in) "1B input"
part B pins: 4 2Y (out) "2Y output", 5 2A (in) "2A input", 6 2B (in) "2B input"
part C pins: 8 3A (in) "3A input", 9 3B (in) "3B input", 10 3Y (out) "3Y output"
part D pins: 11 4A (in) "4A input", 12 4B (in) "4B input", 13 4Y (out) "4Y output"
part E pins: 7 GND (power), 14 VCC (power)

## SN74AHC02DGVR
designator U?
Quadruple 2-Input Positive-NOR Gates, DGV0014A, LARGE T&R; Generic Part Number: SN74AHC02; Manufacturer: Texas Instruments; PartNumber: SN74AHC02DGVR; VCC(Min)(V): 2; VCC(Max)(V): 5.5; Output Type: CMOS; Bits(#): 4; Rating: Catalog; tpd @ Nom Voltage(Max)(ns): 13,8.5; ICC @ Nom Voltage(Max)(mA): 0.02; F @ Nom Voltage(Max)(Mhz): 110; Voltage(Nom)(V): 3.3,5; Output Drive (IOL/IOH)(Max)(mA): 50/-50; DatasheetVersion: SCLS254L; PackageReference: DGV0014A; Input Type: CMOS; Operating Temperature Range(C): -40 to 125; Code_JEDEC: MO-194; ComponentLink1Description: Manufacturer URL; ComponentLink1URL: http://www.ti.com/; ComponentLink2Description: Datasheet; ComponentLink2URL: http://www.ti.com/lit/ds/symlink/sn74ahc02.pdf; ComponentLink3Description: Package Specification; ComponentLink3URL: http://www.ti.com/lit/ml/mpds006c/mpds006c.pdf
footprint DGV0014A_N (SOP, 14-Leads, Body 4.5x3.7mm, Pitch 0.4mm, IPC Medium Density)
footprint DGV0014A_M (SOP, 14-Leads, Body 4.5x3.7mm, Pitch 0.4mm, IPC Low Density)
footprint DGV0014A_L (SOP, 14-Leads, Body 4.5x3.7mm, Pitch 0.4mm, IPC High Density)
part A pins: 1 1Y (out) "1Y output", 2 1A (in) "1A input", 3 1B (in) "1B input"
part B pins: 4 2Y (out) "2Y output", 5 2A (in) "2A input", 6 2B (in) "2B input"
part C pins: 8 3A (in) "3A input", 9 3B (in) "3B input", 10 3Y (out) "3Y output"
part D pins: 11 4A (in) "4A input", 12 4B (in) "4B input", 13 4Y (out) "4Y output"
part E pins: 7 GND (power), 14 VCC (power)

## SN74AHC02DR
designator U?
Quadruple 2-Input Positive-NOR Gates, D0014A, LARGE T&R; Generic Part Number: SN74AHC02; Manufacturer: Texas Instruments; PartNumber: SN74AHC02DR; VCC(Min)(V): 2; VCC(Max)(V): 5.5; Output Type: CMOS; Bits(#): 4; Rating: Catalog; tpd @ Nom Voltage(Max)(ns): 13,8.5; ICC @ Nom Voltage(Max)(mA): 0.02; F @ Nom Voltage(Max)(Mhz): 110; Voltage(Nom)(V): 3.3,5; Output Drive (IOL/IOH)(Max)(mA): 50/-50; DatasheetVersion: SCLS254L; PackageReference: D0014A; Input Type: CMOS; Operating Temperature Range(C): -40 to 125; Code_JEDEC: MS-012; ComponentLink1Description: Manufacturer URL; ComponentLink1URL: http://www.ti.com/; ComponentLink2Description: Datasheet; ComponentLink2URL: http://www.ti.com/lit/ds/symlink/sn74ahc02.pdf; ComponentLink3Description: Package Specification; ComponentLink3URL: http://www.ti.com/lit/ml/mpds177g/mpds177g.pdf
footprint D0014A_N (SOIC, 14-Leads, Body 8.75x4mm, Pitch 1.27mm, IPC Medium Density)
footprint D0014A_M (SOIC, 14-Leads, Body 8.75x4mm, Pitch 1.27mm, IPC Low Density)
footprint D0014A_L (SOIC, 14-Leads, Body 8.75x4mm, Pitch 1.27mm, IPC High Density)
part A pins: 1 1Y (out) "1Y output", 2 1A (in) "1A input", 3 1B (in) "1B input"
part B pins: 4 2Y (out) "2Y output", 5 2A (in) "2A input", 6 2B (in) "2B input"
part C pins: 8 3A (in) "3A input", 9 3B (in) "3B input", 10 3Y (out) "3Y output"
part D pins: 11 4A (in) "4A input", 12 4B (in) "4B input", 13 4Y (out) "4Y output"
part E pins: 7 GND (power), 14 VCC (power)